# EAGLE library part 150505M173300 (library 150505M173300)
2.4 V RGB LED 5050 SMD, Wurth Elektronik WL-SFTW 150505M173300 Source: Datasheet <https://www.we-online.com/components/products/datasheet/150505M173300.pdf>
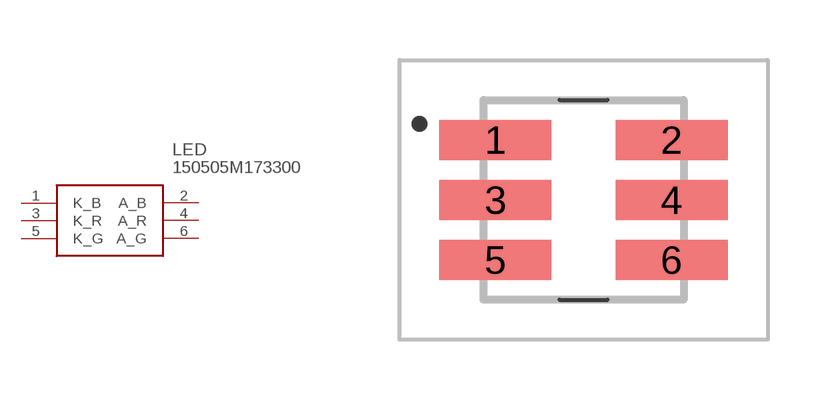
[diagram p0: symbol with the pads of 150505M173300; footprint 150505M173300]

Designator prefix LED

## 150505M173300 (Description: 2.4 V RGB LED 5050 SMD, Wurth Elektronik WL-SFTW 150505M173300; Height: 1.7mm; Manufacturer_Name: Wurth Elektronik; Manufacturer_Part_Number: 150505M173300; Mouser_Part_Number: 710-150505M173300; Mouser_Price-Stock: https://www.mouser.co.uk/ProductDetail/Wurth-Elektronik/150505M173300?qs=fAHHVMwC%252Bbi%2FURn4Qu0%2FAA%3D%3D)  [150505M173300]
1  K_B
2  A_B
3  K_R
4  A_R
5  K_G
6  A_G

## Footprint 150505M173300 (pad centres in mm)
150505M173300-9
smd 2.8 x 1: 1 -2.2,1.5; 2 2.2,1.5; 3 -2.2,0; 4 2.2,0; 5 -2.2,-1.5; 6 2.2,-1.5